# Altium integrated library Analog Devices Data Converters Analog-to-Digital Converters.IntLib: 2404 symbols (part 150 of 346)
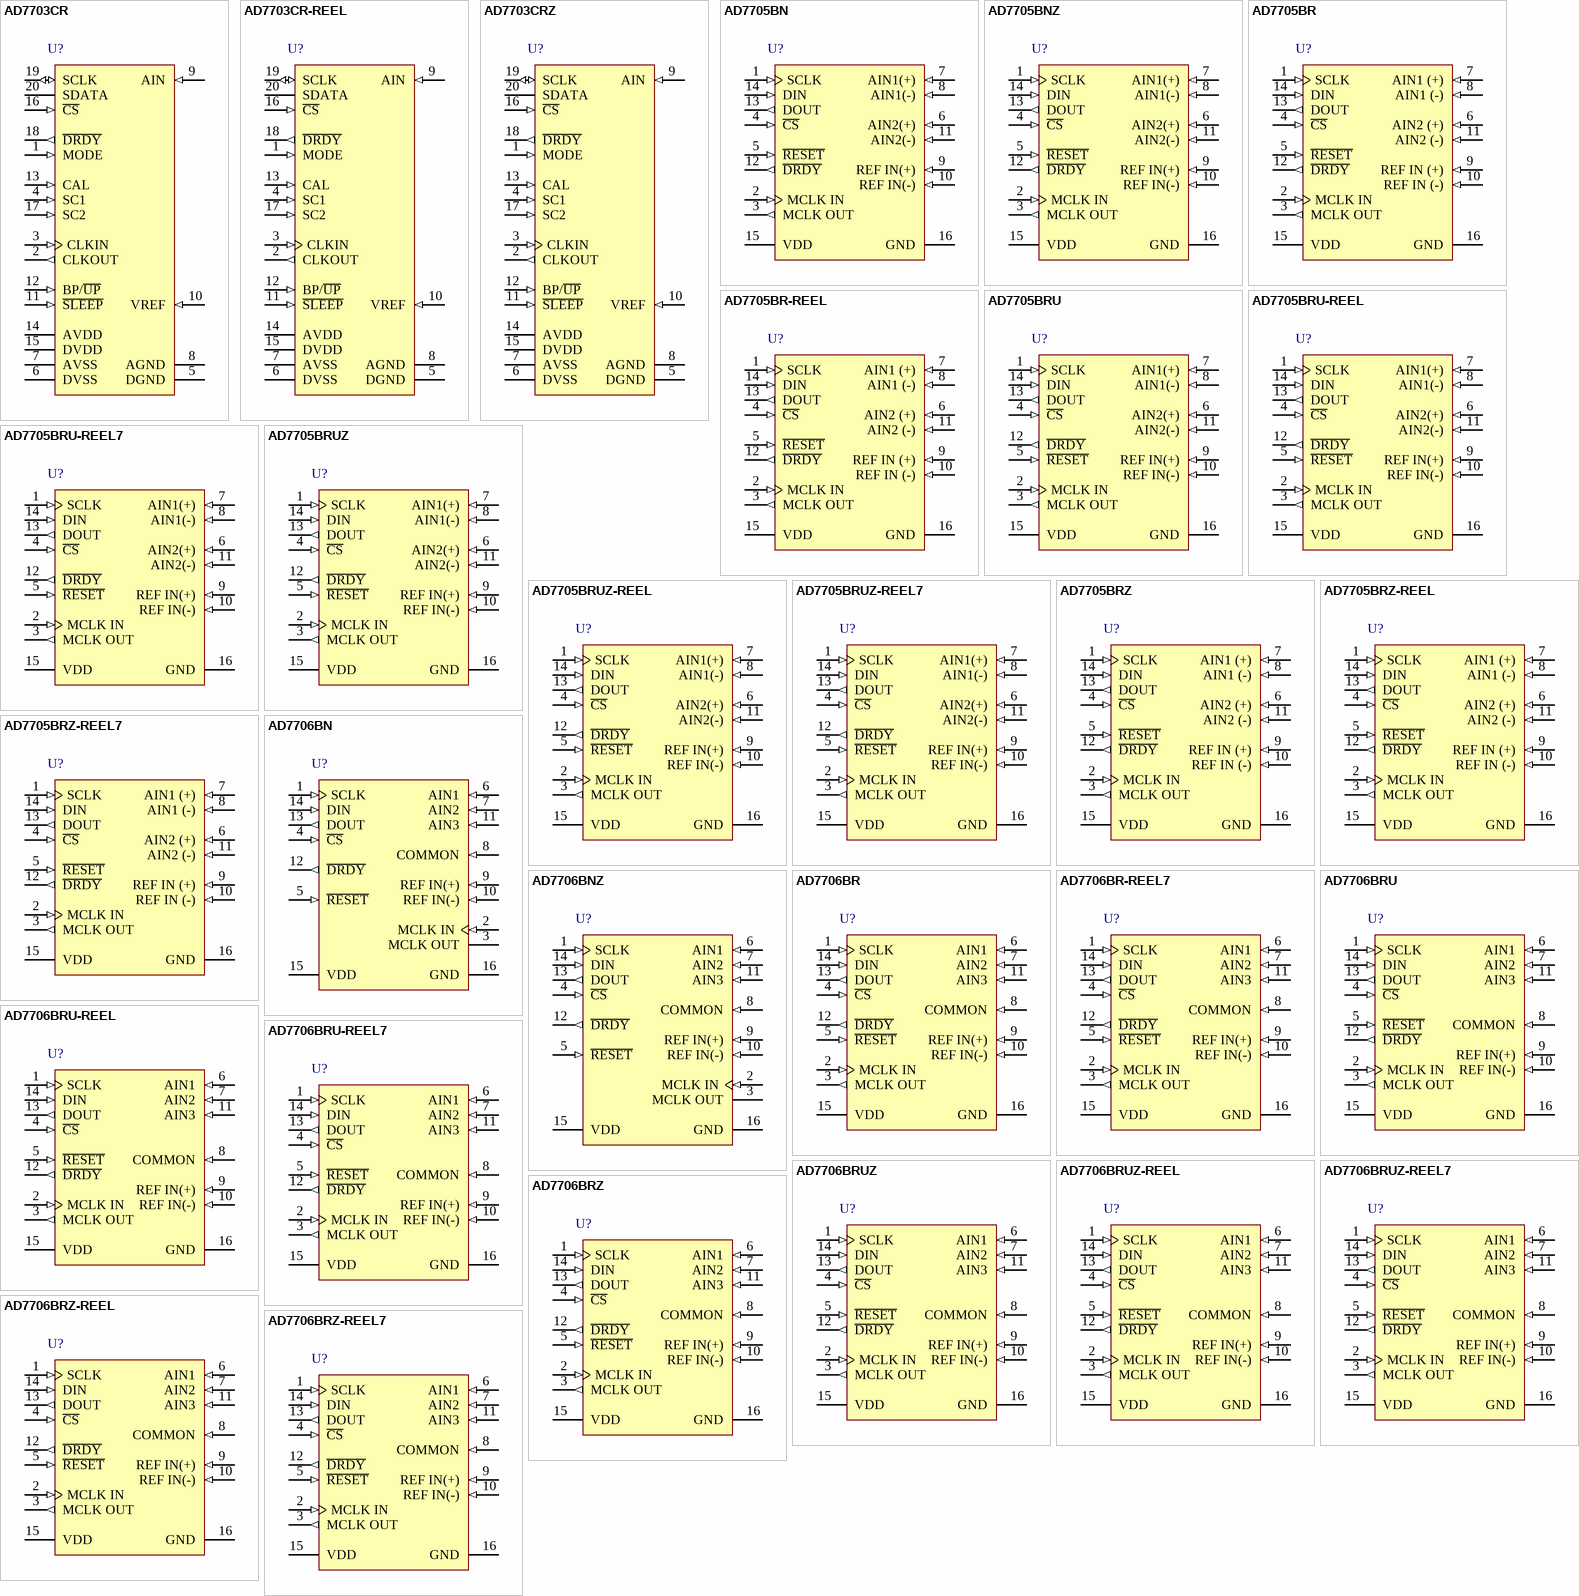
[diagram p337: symbols AD7703CR to AD7706BRZ-REEL7]

## AD7705BRZ-REEL7
designator U?
Dual 16-Bit Sigma-Delta Analog-to-Digital Converter with Serial, SPI Interface, 1 mW, 3 V / 5 V, 500SPS, -40 to +85 degC, RW-16, Pb-Free, Reel; Generic Part Number: AD7705; Manufacturer: Analog Devices; PartNumber: AD7705BRZ-REEL7; Resolution (Bits): 16; Channels: 2; Throughput Rate (SPS): 500; Interface: Ser, SPI; DatasheetVersion: Rev.C; PackageVersion: 032707-B; PackageReference: RW-16; PackageDescription: 16-Lead Standard Small Outline Package [SOIC_W]; Supplier 1: Digi-Key; Supplier Part Number 1: AD7705BRZ-REEL7TR-ND; Supplier 2: Digi-Key; Supplier Part Number 2: AD7705BRZ-REEL7CT-ND; Supplier 3: Digi-Key; Supplier Part Number 3: AD7705BRZ-REEL7DKR-ND; Supplier 4: Newark; Supplier Part Number 4: 59K5284; Supplier 5: Mouser; Supplier Part Number 5: 584-AD7705BRZ-R7; RoHS: Y; Packing: Reel; Mounting Technology: Surface Mount; Code_JEDEC: MS-013-AA; Code_IPC: SOIC127P1030-16; ComponentLink1Description: Manufacturer URL; ComponentLink1URL: http://www.analog.com/en/index.html; ComponentLink2Description: Datasheet; ComponentLink2URL: http://www.analog.com/static/imported-files/data_sheets/AD7705_7706.pdf; ComponentLink3Description: Package Specification; ComponentLink3URL: http://www.analog.com/static/imported-files/packages/PKG_PDF/SOIC_WIDE%20%28RW%29/RW_16.pdf; ComponentLink4Description: Product URL; ComponentLink4URL: http://www.analog.com/en/analog-to-digital-converters/ad-converters/ad7705/products/product.html
footprint RW-16_N (SOIC, 16-Leads, Body 10.3x7.5mm, Pitch 1.27mm, IPC Medium Density)
footprint RW-16_L (SOIC, 16-Leads, Body 10.3x7.5mm, Pitch 1.27mm, IPC High Density)
footprint RW-16_M (SOIC, 16-Leads, Body 10.3x7.5mm, Pitch 1.27mm, IPC Low Density)
pins: 1 SCLK (in) "Serial Clock. An external serial clock is applied to the Schmitt-triggered logic input to access serialdata from the AD7705/AD7706. This serial clock can be a continuous clock with all data transmitted ina continuous train (See Datasheet)", 2 MCLK IN (in) "Master Clock Signal. This can be provided in the form of a crystal/resonator or external clock. Acrystal/resonator can be tied across the Pin MCLK IN and Pin MCLK OUT. Alternatively, the MCLK IN pin can be driven with a (See Datasheet)", 3 MCLK OUT (out) "When the master clock for these devices is a crystal/resonator, the crystal/resonator is connected between Pin MCLK IN and Pin MCLK OUT. If an external clock is applied to Pin MCLK IN, Pin MCLK OUT provides an inverted clock (See Datasheet)", 4 ~{CS} (in) "Chip Select. Active low logic input used to select the AD7705/AD7706. With this input hardwired low, the AD7705/AD7706 can operate in its 3-wire interface mode with Pin SCLK, Pin DIN, and Pin DOUT used to interface to the (See Datasheet)", 5 ~{RESET} (in) "Logic Input. Active low input that resets the control logic, interface logic, calibration coefficients, digital filter, and analog modulator of the parts to power-on status", 6 AIN2 (+) (in) "Positive Input of the Differential Analog Input Pair AIN2(+)/AIN2(-) for AD7705. Channel 1 for AD7706.", 7 AIN1 (+) (in) "Positive Input of the Differential Analog Input Pair AIN1(+)/AIN1(-) for AD7705. Channel 2 for AD7706.", 8 AIN1 (-) (in) "Negative Input of the Differential Analog Input Pair AIN1(+)/AIN1(-) for AD7705. COMMON input for AD7706 with Channel 1, Channel 2, and Channel 3 referenced to this input", 9 REF IN (+) (in) "Reference Input. Positive input of the differential reference input to the AD7705/AD7706. The reference input is differential with the provision that REF IN(+) must be greater than REF IN(-) REF IN(+) can lie anywhere (See Datasheet)", 10 REF IN (-) (in) "Reference Input. Negative input of the differential reference input to the AD7705/AD7706. The REF IN(-) can lie anywhere between VDD and GND, provided that REF IN(+) is greater than REF IN(-).", 11 AIN2 (-) (in) "Negative Input of the Differential Analog Input Pair AIN2(+)/AIN2(-) for AD7705. Channel 3 for AD7706.", 12 ~{DRDY} (out) "Logic Output. A logic low on this output indicates that a new output word is available from the AD7705/AD7706 data register. The D\R\D\Y\ pin returns high upon completion of a read operation of a full output word. If no data (See Datasheet)", 13 DOUT (out) "Serial Data Output. Serial data is read from the output shift register on the part. The output shift register can contain information from the setup register, communication register, clock register, or data register, (See Datasheet)", 14 DIN (in) "Serial Data Input. Serial data is written to the input shift register on the part. Data from the input shift register is transferred to the setup register, clock register, or communication register, depending on  the (See Datasheet)", 15 VDD (power) "Supply Voltage. 2.7 V to 5.25 V operation.", 16 GND (power) "Ground Reference Point for the AD7705/AD7706 Internal Circuitry"

## AD7706BN
designator U?
3 Channel 16-Bit Sigma-Delta Analog-to-Digital Converter with Serial, SPI Interface, 1 mW, 3 V / 5 V, 500SPS, -40 to +85 degC, N-16, Tube; Generic Part Number: AD7706; Manufacturer: Analog Devices; PartNumber: AD7706BN; Resolution (Bits): 16; Channels: 3; Throughput Rate (SPS): 500; Interface: Ser, SPI; DatasheetVersion: Rev.C; PackageVersion: 070706-A; PackageReference: N-16; PackageDescription: 16-Lead Plastic Dual In-Line Package [PDIP] Narrow Body; Supplier 1: Digi-Key; Supplier Part Number 1: AD7706BN-ND; RoHS: N; Packing: Tube; Mounting Technology: Through-hole; Code_JEDEC: MS-001; ComponentLink1Description: Manufacturer URL; ComponentLink1URL: http://www.analog.com/en/index.html; ComponentLink2Description: Datasheet; ComponentLink2URL: http://www.analog.com/static/imported-files/data_sheets/AD7705_7706.pdf; ComponentLink3Description: Package Specification; ComponentLink3URL: http://www.analog.com/static/imported-files/packages/44768431550332N_16.pdf; ComponentLink4Description: Product URL; ComponentLink4URL: http://www.analog.com/en/analog-to-digital-converters/ad-converters/ad7706/products/product.html
footprint N-16 (DIP, 16-Leads, Row Spacing 7.62mm, Pitch 2.54mm, Body 20.1x6.6mm)
pins: 1 SCLK (in) "Serial Clock. An external serial clock is applied to the Schmitt-triggered logic input to access serial data from the AD7705/AD7706. This serial clock can be a continuous clock with all data transmitted in a continuous train (See Datasheet)", 2 MCLK IN (in) "Master Clock Signal. This can be provided in the form of a crystal/resonator or external clock. A crystal/resonator can be tied across the Pin MCLK IN and Pin MCLK OUT. Alternatively, the MCLK IN pin can be driven with a (See Datasheet)", 3 MCLK OUT "When the master clock for these devices is a crystal/resonator, the crystal/resonator is connected between Pin MCLK IN and Pin MCLK OUT. If an external clock is applied to Pin MCLK IN, Pin MCLK OUT provides an inverted clock (See Datasheet)", 4 ~{CS} (in) "Chip Select. Active low logic input used to select the AD7705/AD7706. With this input hardwired low, the AD7705/AD7706 can operate in its 3-wire interface mode with Pin SCLK, Pin DIN, and Pin DOUT used to interface to the (See Datasheet)", 5 ~{RESET} (in) "Logic Input. Active low input that resets the control logic, interface logic, calibration coefficients, digital filter, and analog modulator of the parts to power-on status.", 6 AIN1 (in) "Positive Input of the Differential Analog Input Pair AIN2(+)/AIN2(-) for AD7705. Channel 1 for AD7706.", 7 AIN2 (in) "Positive Input of the Differential Analog Input Pair AIN1(+)/AIN1(-) for AD7705. Channel 2 for AD7706.", 8 COMMON (in) "Negative Input of the Differential Analog Input Pair AIN1(+)/AIN1(-) for AD7705. COMMON input for AD7706 with Channel 1, Channel 2, and Channel 3 referenced to this input.", 9 REF IN(+) (in) "Reference Input. Positive input of the differential reference input to the AD7705/AD7706. The reference input is differential with the provision that REF IN(+) must be greater than REF IN(-).  REF IN(+) can lie anywhere (See Datasheet)", 10 REF IN(-) (in) "Reference Input. Negative input of the differential reference input to the AD7705/AD7706. The REF IN(-) can lie anywhere between VDD and GND, provided that REF IN(+) is greater than REF IN(-).", 11 AIN3 (in) "Negative Input of the Differential Analog Input Pair AIN2(+)/AIN2(-) for AD7705. Channel 3 for AD7706.", 12 ~{DRDY} (out) "Logic Output. A logic low on this output indicates that a new output word is available from the  AD7705/AD7706 data register. The D\R\D\Y\ pin returns high upon completion of a read operation of a full output word. If no (See Datasheet)", 13 DOUT (out) "Serial Data Output. Serial data is read from the output shift register on the part. The output shift register can contain information from the setup register, communication register, clock register, or data register, (See Datasheet)", 14 DIN (in) "Serial Data Input. Serial data is written to the input shift register on the part. Data from the input shift register is transferred to the setup register, clock register, or communication register, depending on the register (See Datasheet)", 15 VDD (power) "Supply Voltage. 2.7 V to 5.25 V operation", 16 GND (power) "Ground Reference Point for the AD7705/AD7706 Internal Circuitry."

## AD7706BNZ
designator U?
3 Channel 16-Bit Sigma-Delta Analog-to-Digital Converter with Serial, SPI Interface, 1 mW, 3 V / 5 V, 500SPS, -40 to +85 degC, N-16, Pb-Free, Tube; Generic Part Number: AD7706; Manufacturer: Analog Devices; PartNumber: AD7706BNZ; Resolution (Bits): 16; Channels: 3; Throughput Rate (SPS): 500; Interface: Ser, SPI; DatasheetVersion: Rev.C; PackageVersion: 070706-A; PackageReference: N-16; PackageDescription: 16-Lead Plastic Dual In-Line Package [PDIP] Narrow Body; Supplier 1: Digi-Key; Supplier Part Number 1: AD7706BNZ-ND; Supplier 2: Farnell; Supplier Part Number 2: 1079294; Supplier 3: Newark; Supplier Part Number 3: 31M4339; Supplier 4: Newark; Supplier Part Number 4: 19M0891; Supplier 5: Mouser; Supplier Part Number 5: 584-AD7706BNZ; RoHS: Y; Packing: Tube; Mounting Technology: Through-hole; Code_JEDEC: MS-001; ComponentLink1Description: Manufacturer URL; ComponentLink1URL: http://www.analog.com/en/index.html; ComponentLink2Description: Datasheet; ComponentLink2URL: http://www.analog.com/static/imported-files/data_sheets/AD7705_7706.pdf; ComponentLink3Description: Package Specification; ComponentLink3URL: http://www.analog.com/static/imported-files/packages/44768431550332N_16.pdf; ComponentLink4Description: Product URL; ComponentLink4URL: http://www.analog.com/en/analog-to-digital-converters/ad-converters/ad7706/products/product.html
footprint N-16 (DIP, 16-Leads, Row Spacing 7.62mm, Pitch 2.54mm, Body 20.1x6.6mm)
pins: 1 SCLK (in) "Serial Clock. An external serial clock is applied to the Schmitt-triggered logic input to access serial data from the AD7705/AD7706. This serial clock can be a continuous clock with all data transmitted in a continuous train (See Datasheet)", 2 MCLK IN (in) "Master Clock Signal. This can be provided in the form of a crystal/resonator or external clock. A crystal/resonator can be tied across the Pin MCLK IN and Pin MCLK OUT. Alternatively, the MCLK IN pin can be driven with a (See Datasheet)", 3 MCLK OUT "When the master clock for these devices is a crystal/resonator, the crystal/resonator is connected between Pin MCLK IN and Pin MCLK OUT. If an external clock is applied to Pin MCLK IN, Pin MCLK OUT provides an inverted clock (See Datasheet)", 4 ~{CS} (in) "Chip Select. Active low logic input used to select the AD7705/AD7706. With this input hardwired low, the AD7705/AD7706 can operate in its 3-wire interface mode with Pin SCLK, Pin DIN, and Pin DOUT used to interface to the (See Datasheet)", 5 ~{RESET} (in) "Logic Input. Active low input that resets the control logic, interface logic, calibration coefficients, digital filter, and analog modulator of the parts to power-on status.", 6 AIN1 (in) "Positive Input of the Differential Analog Input Pair AIN2(+)/AIN2(-) for AD7705. Channel 1 for AD7706.", 7 AIN2 (in) "Positive Input of the Differential Analog Input Pair AIN1(+)/AIN1(-) for AD7705. Channel 2 for AD7706.", 8 COMMON (in) "Negative Input of the Differential Analog Input Pair AIN1(+)/AIN1(-) for AD7705. COMMON input for AD7706 with Channel 1, Channel 2, and Channel 3 referenced to this input.", 9 REF IN(+) (in) "Reference Input. Positive input of the differential reference input to the AD7705/AD7706. The reference input is differential with the provision that REF IN(+) must be greater than REF IN(-).  REF IN(+) can lie anywhere (See Datasheet)", 10 REF IN(-) (in) "Reference Input. Negative input of the differential reference input to the AD7705/AD7706. The REF IN(-) can lie anywhere between VDD and GND, provided that REF IN(+) is greater than REF IN(-).", 11 AIN3 (in) "Negative Input of the Differential Analog Input Pair AIN2(+)/AIN2(-) for AD7705. Channel 3 for AD7706.", 12 ~{DRDY} (out) "Logic Output. A logic low on this output indicates that a new output word is available from the  AD7705/AD7706 data register. The D\R\D\Y\ pin returns high upon completion of a read operation of a full output word. If no (See Datasheet)", 13 DOUT (out) "Serial Data Output. Serial data is read from the output shift register on the part. The output shift register can contain information from the setup register, communication register, clock register, or data register, (See Datasheet)", 14 DIN (in) "Serial Data Input. Serial data is written to the input shift register on the part. Data from the input shift register is transferred to the setup register, clock register, or communication register, depending on the register (See Datasheet)", 15 VDD (power) "Supply Voltage. 2.7 V to 5.25 V operation", 16 GND (power) "Ground Reference Point for the AD7705/AD7706 Internal Circuitry."